# EAGLE library part TPS62737RGYR (library TexasInstruments)
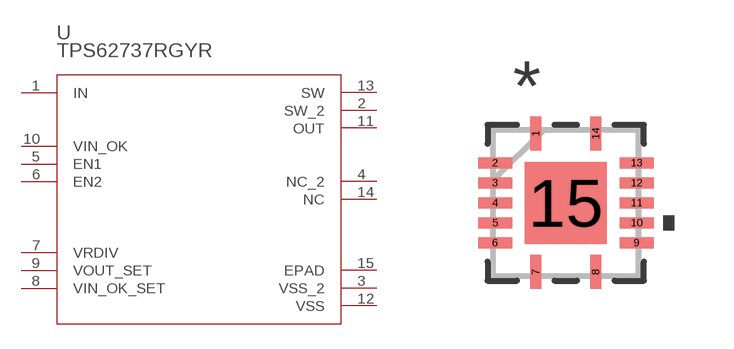
[diagram p13: symbol with the pads of RGY14_2P05X2P05_TEX; footprint RGY14_2P05X2P05_TEX]

Designator prefix U

## TPS62737RGYRRGY14_2P05X2P05_TEX (COPYRIGHT: Copyright (C) 2023 Ultra Librarian. All rights reserved.; MANUFACTURER_PART_NUMBER: TPS62737RGYR; MFR_NAME: Texas Instruments)  [RGY14_2P05X2P05_TEX]
1  IN  in
2  SW_2  in
3  VSS_2  pwr
4  NC_2  nc
5  EN1  in
6  EN2  in
7  VRDIV  out
8  VIN_OK_SET  in
9  VOUT_SET  out
10  VIN_OK  in
11  OUT  out
12  VSS  pwr
13  SW  in
14  NC  nc
15  EPAD  pas

## Footprint RGY14_2P05X2P05_TEX (pad centres in mm)
smd 0.28 x 0.85: 1 -0.75,1.731; 7 -0.75,-1.731; 8 0.75,-1.731; 14 0.75,1.731
smd 0.85 x 0.28: 2 -1.769,1; 3 -1.769,0.5; 4 -1.769,0; 5 -1.769,-0.5; 6 -1.769,-1; 9 1.769,-1; 10 1.769,-0.5; 11 1.769,0; 12 1.769,0.5; 13 1.769,1
smd 2.05 x 2.05: 15 0,0